# EAGLE library part 613010143121 (library Wuerth_Elektronik_eiCan_Pin_&_Socked_Headers_v1.3)
WR-PHD 2.54mm Angled Socket Header, 10 Pins
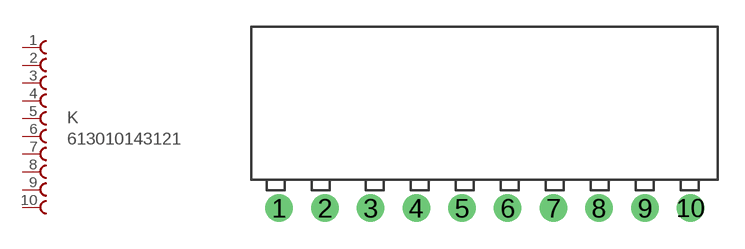
[diagram p151: symbol with the pads of 613010143121; footprint 613010143121]

Designator prefix K

## 613010143121  [613010143121]
1  1  pas
2  2  pas
3  3  pas
4  4  pas
5  5  pas
6  6  pas
7  7  pas
8  8  pas
9  9  pas
10  10  pas

## Footprint 613010143121 (pad centres in mm)
WR-PHD 2.54mm Angled Socket Header, 10 Pins
drill 1.02 round: 1 -20.32,0; 2 -17.78,0; 3 -15.24,0; 4 -12.7,0; 5 -10.16,0; 6 -7.62,0; 7 -5.08,0; 8 -2.54,0; 9 0,0; 10 2.54,0